# EAGLE library part OMRON-B3W-901X (library DonB)
"Omron 12mm lighted button."
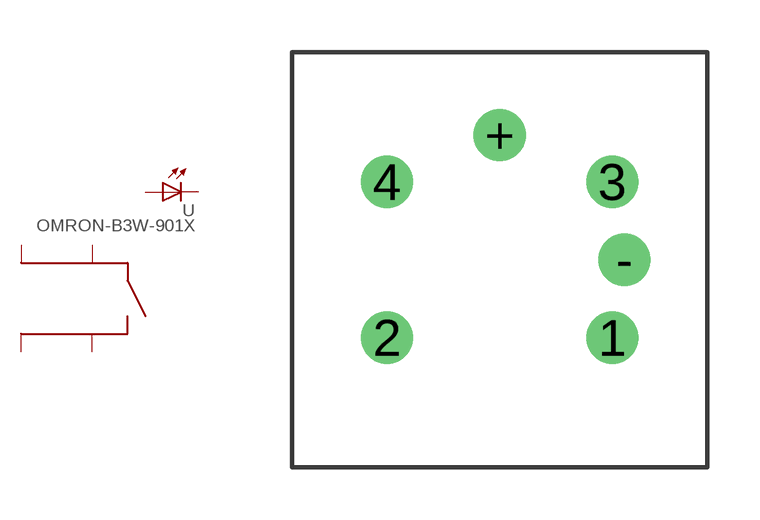
[diagram p3: symbol with the pads of OMRON-B3W-901X; footprint OMRON-B3W-901X]

Designator prefix -

## OMRON-B3W-901X  [OMRON-B3W-901X]
1  1
2  2
3  3
4  4
+  +
-  -  pas

## Footprint OMRON-B3W-901X (pad centres in mm)
drill 1: 1 3.25,-2.25; 2 -3.25,-2.25; 3 3.25,2.25; 4 -3.25,2.25; + 0,3.6; - 3.6,0